# EAGLE library part BSS138 (library BSS138)
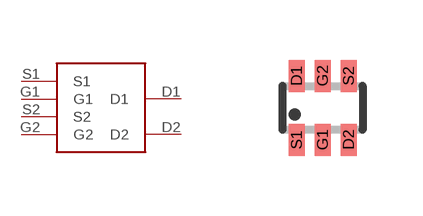
[diagram p0: symbol with the pads of SOT363; footprint SOT363]

Designator prefix -

## BSS138  [SOT363]
D1  D1
D2  D2
G1  G1
G2  G2
S1  S1
S2  S2

## Footprint SOT363 (pad centres in mm)
SOT-363 (SC-706 Lead) Source: Data sheet <http://www.farnell.com/datasheets/461166.pdf>
smd 0.4 x 0.8: D1 -0.65,0.8; D2 0.65,-0.8; G1 0,-0.8; G2 0,0.8; S1 -0.65,-0.8; S2 0.65,0.8